# Altium schematic symbol library Eln1Project.SchLib: 2 symbols
Pins are listed as number, name and electrical type; pins without a type are passive.

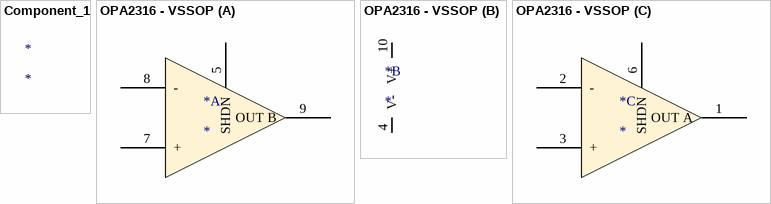
[diagram p0: symbols Component_1 to OPA2316 - VSSOP]

## Component_1
designator *

## OPA2316 - VSSOP
designator *
footprint OPA2316 - VSSOP (SSOP, 10-Leads, Body 3,00x3,00mm, Pitch 0,50mm, IPC Medium Density)
part A pins: 5 SHDN, 7 +, 8 -, 9 OUT B
part B pins: 4 V-, 10 V+
part C pins: 1 OUT A, 2 -, 3 +, 6 SHDN